# EAGLE library part BNO055 (library rocketry)
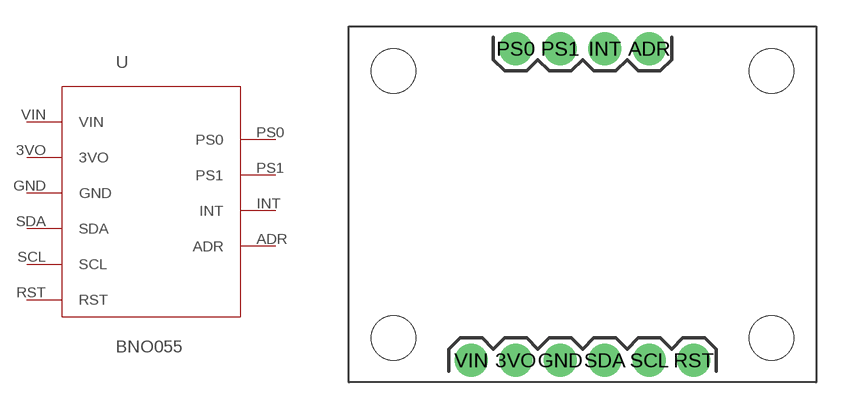
[diagram p0: symbol with the pads of BNO055; footprint BNO055]

Designator prefix -

## BNO055  [BNO055]
3VO  3VO
ADR  ADR
GND  GND
INT  INT
PS0  PS0
PS1  PS1
RST  RST
SCL  SCL
SDA  SDA
VIN  VIN

## Footprint BNO055 (pad centres in mm)
drill 1.016 pad 1.88: 3VO 9.525,1.27; ADR 17.145,19.05; GND 12.065,1.27; INT 14.605,19.05; PS0 9.525,19.05; PS1 12.065,19.05; RST 19.685,1.27; SCL 17.145,1.27; SDA 14.605,1.27; VIN 6.985,1.27
hole 2.54 at 2.54,17.78
hole 2.54 at 2.54,2.54
hole 2.54 at 24.13,2.54
hole 2.54 at 24.13,17.78